# EAGLE library part LT3755-2 (library PowerProducts)
LT-Spice library generated with : ltspice.ulp from: D:/Program Files (x86)/LTC/LTspiceIV/lib/sym/PowerProducts/LT3756*.asy at 07.10.2012 16:43:11
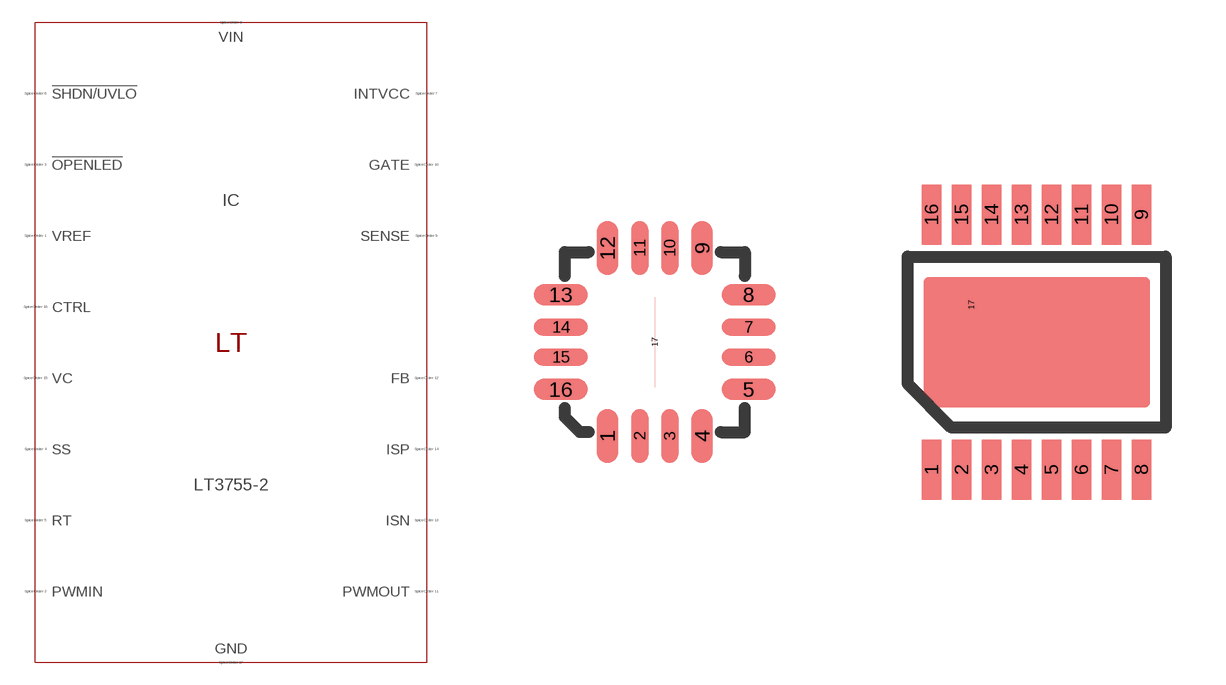
[diagram p98: symbol with the pads of QFN16(UD); footprints QFN16(UD), MSOP16(MSE)]

Designator prefix IC

## LT3755-2UD (SPICEMODEL: LT3755.sub; SPICEPREFIX: X; VALUE2: LT3755)  [QFN16(UD)]
1  VREF  pas
2  PWMIN  pas
3  !OPENLED  pas
4  SS  pas
5  RT  pas
6  !SHDN/UVLO  pas
7  INTVCC  pas
8  VIN  pas
9  SENSE  pas
10  GATE  pas
11  PWMOUT  pas
12  FB  pas
13  ISN  pas
14  ISP  pas
15  VC  pas
16  CTRL  pas
17  GND  pas

## LT3755-2 (SPICEMODEL: LT3755.sub; SPICEPREFIX: X; VALUE2: LT3755)  [MSOP16(MSE)]
1  PWMOUT  pas
2  FB  pas
3  ISN  pas
4  ISP  pas
5  VC  pas
6  CTRL  pas
7  VREF  pas
8  PWMIN  pas
9  !OPENLED  pas
10  SS  pas
11  RT  pas
12  !SHDN/UVLO  pas
13  INTVCC  pas
14  VIN  pas
15  SENSE  pas
16  GATE  pas
17  GND  pas

## Footprint QFN16(UD) (pad centres in mm)
Package generated from: QFN16(UD).asc (!PADS-POWERPCB-V9.3-BASIC! DESIGN DATABASE ASCII FILE 1.0) with :import-pads-powerpcb-v5.ulp Version 1.0.1 at 04.10.2012 14:11:23
smd 0.54 x 1.35: 1 -1.185,-2.348; 4 1.185,-2.348; 9 1.185,2.348; 12 -1.185,2.348
smd 0.42 x 1.35: 2 -0.375,-2.348; 3 0.375,-2.348; 10 0.375,2.348; 11 -0.375,2.348
smd 1.35 x 0.54: 5 2.348,-1.185; 8 2.348,1.185; 13 -2.348,1.185; 16 -2.348,-1.185
smd 1.35 x 0.42: 6 2.348,-0.375; 7 2.348,0.375; 14 -2.348,0.375; 15 -2.348,-0.375
smd 0 x 2.25: 17 0,0

## Footprint MSOP16(MSE) (pad centres in mm)
Package generated from: MSOP16(MSE).asc (!PADS-POWERPCB-V9.3-BASIC! DESIGN DATABASE ASCII FILE 1.0) with :import-pads-powerpcb-v5.ulp Version 1.0.1 at 04.10.2012 14:11:19
smd 0.495 x 1.5: 1 -2.625,-3.188; 2 -1.875,-3.188; 3 -1.125,-3.188; 4 -0.375,-3.188; 5 0.375,-3.188; 6 1.125,-3.188; 7 1.875,-3.188; 8 2.625,-3.188; 9 2.625,3.188; 10 1.875,3.188; 11 1.125,3.188; 12 0.375,3.188; 13 -0.375,3.188; 14 -1.125,3.188; 15 -1.875,3.188; 16 -2.625,3.188
smd 0 x 0.525: 17 -1.635,0.93